# EAGLE library part PCIE-36-EDGE (library WFR2020)
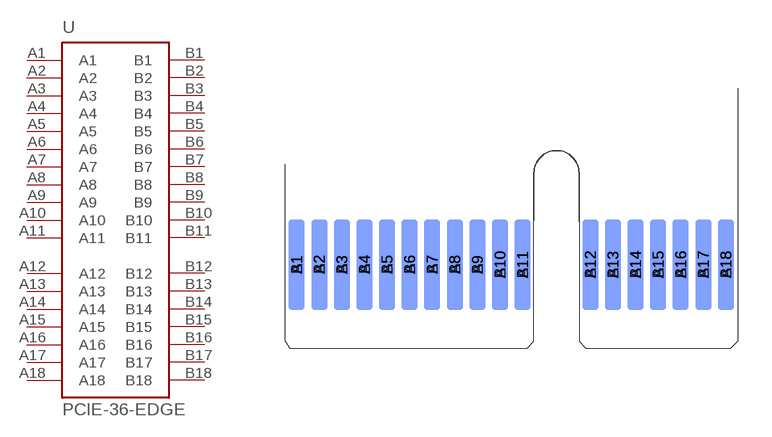
[diagram p12: symbol with the pads of PCI-E_SLOT_36; footprint PCI-E_SLOT_36]

Designator prefix -

## PCIE-36-EDGE  [PCI-E_SLOT_36]
A1  A1  pas
A2  A2  pas
A3  A3  pas
A4  A4  pas
A5  A5  pas
A6  A6  pas
A7  A7  pas
A8  A8  pas
A9  A9  pas
A10  A10  pas
A11  A11  pas
A12  A12  pas
A13  A13  pas
A14  A14  pas
A15  A15  pas
A16  A16  pas
A17  A17  pas
A18  A18  pas
B1  B1  pas
B2  B2  pas
B3  B3  pas
B4  B4  pas
B5  B5  pas
B6  B6  pas
B7  B7  pas
B8  B8  pas
B9  B9  pas
B10  B10  pas
B11  B11  pas
B12  B12  pas
B13  B13  pas
B14  B14  pas
B15  B15  pas
B16  B16  pas
B17  B17  pas
B18  B18  pas

## Footprint PCI-E_SLOT_36 (pad centres in mm)
Copy from con-pci_express(pci-e).lbr uploaded Mon Jul 2 10:15:25 2007 with Finished-Layer Library for PCI-Express x16 (PCI-E) connector. Includes connector and card edge pattern. Uploaded by JF Duval <jfduval@aqra.ca> from AQRA.ca
smd 0.7 x 4 bottom: A1 0.245,3.75; A2 1.245,3.75; A3 2.245,3.75; A4 3.245,3.75; A5 4.245,3.75; A6 5.245,3.75; A7 6.245,3.75; A8 7.245,3.75; A9 8.245,3.75; A10 9.245,3.75; A11 10.245,3.75; A12 13.245,3.75; A13 14.245,3.75; A14 15.245,3.75; A15 16.245,3.75; A16 17.245,3.75; A17 18.245,3.75; A18 19.245,3.75
smd 0.7 x 4: B1 0.245,3.75; B2 1.245,3.75; B3 2.245,3.75; B4 3.245,3.75; B5 4.245,3.75; B6 5.245,3.75; B7 6.245,3.75; B8 7.245,3.75; B9 8.245,3.75; B10 9.245,3.75; B11 10.245,3.75; B12 13.245,3.75; B13 14.245,3.75; B14 15.245,3.75; B15 16.245,3.75; B16 17.245,3.75; B17 18.245,3.75; B18 19.245,3.75